# Altium schematic symbol library EEH-ZA1E101XP.SchLib: 1 symbol
Pins are listed as number, name and electrical type; pins without a type are passive.

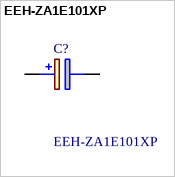
[diagram p0: symbol EEH-ZA1E101XP]

## EEH-ZA1E101XP
designator C?
Aluminum Organic Polymer Capacitors 100uF 25volt AEC-Q200; Manufacturer_Name: Panasonic; Geometry.Height: 8.3mm; Manufacturer_Part_Number: EEH-ZA1E101XP; Mouser Part Number: 667-EEH-ZA1E101XP; Mouser Price/Stock: https://www.mouser.co.uk/ProductDetail/Panasonic/EEH-ZA1E101XP?qs=7UCyOFMWVHbBL6OBgRrCPQ%3D%3D; Arrow Part Number: *; Arrow Price/Stock: *; Datasheet Link: http://industrial.panasonic.com/cdbs/www-data/pdf/RDD0000/ABA0000C1221.pdf
footprint EEHZA1E101XP
pins: 1 +, 2 -